# Altium footprint library 2010 Package.PcbLib: 1 footprints
Each footprint in its own frame and in the unit in brackets; x right, y up, seen from the top. Pads: shape width x height; smd on the part's side, far side on the other; paste and mask are expansions set on the pad; w line width, h text height; cw(c..) or ccw(c..) is an arc to the next point about the centre after c.
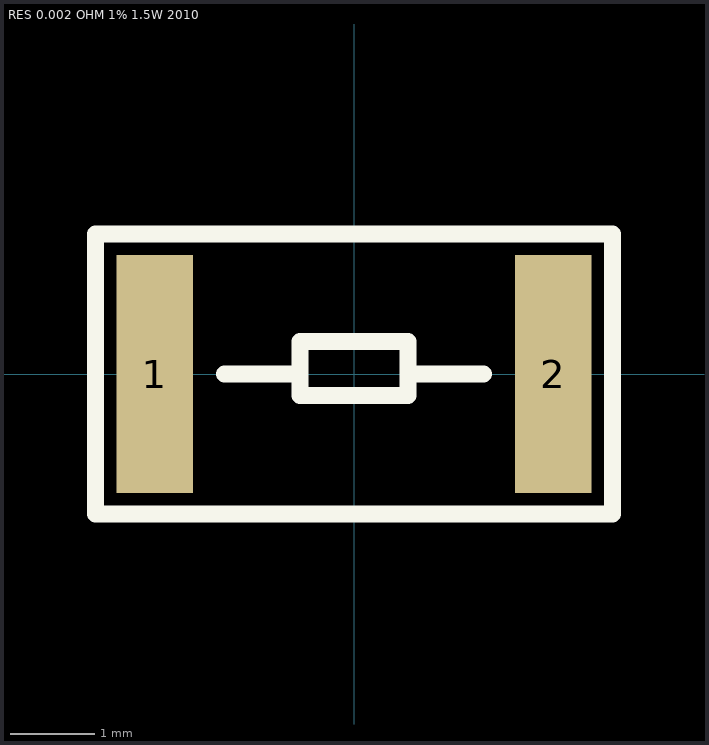
[diagram p0: the footprint, top view; thin cyan lines are the x and y axes]

## RES 0.002 OHM 1% 1.5W 2010 [mm] "2 mOhms ±1% 1.5W Chip Resistor 2010 (5025 Metric) Current Sense, Moisture Resistant Metal Foil"
pads (2):
  rect 0.9x2.8 smd: 1(-2.35,0) 2(2.35,0)
Top Overlay:
  lines w0.2: -1.524,0 -0.635,0 ; 0.635,0 1.524,0 ; -0.635,0 -0.635,-0.254 0.635,-0.254 0.635,0.381 -0.635,0.381 -0.635,0 ; -3.048,-1.651 -3.048,1.651 3.048,1.651 3.048,-1.651 -3.048,-1.651
3D body "Resistor 2010.step": height 0.61, standoff 0.01, extent -2.5,-1.25 2.5,1.25